# Altium integrated library SmartHalo.IntLib: 39 symbols
Pins are listed as number, name and electrical type; pins without a type are passive.

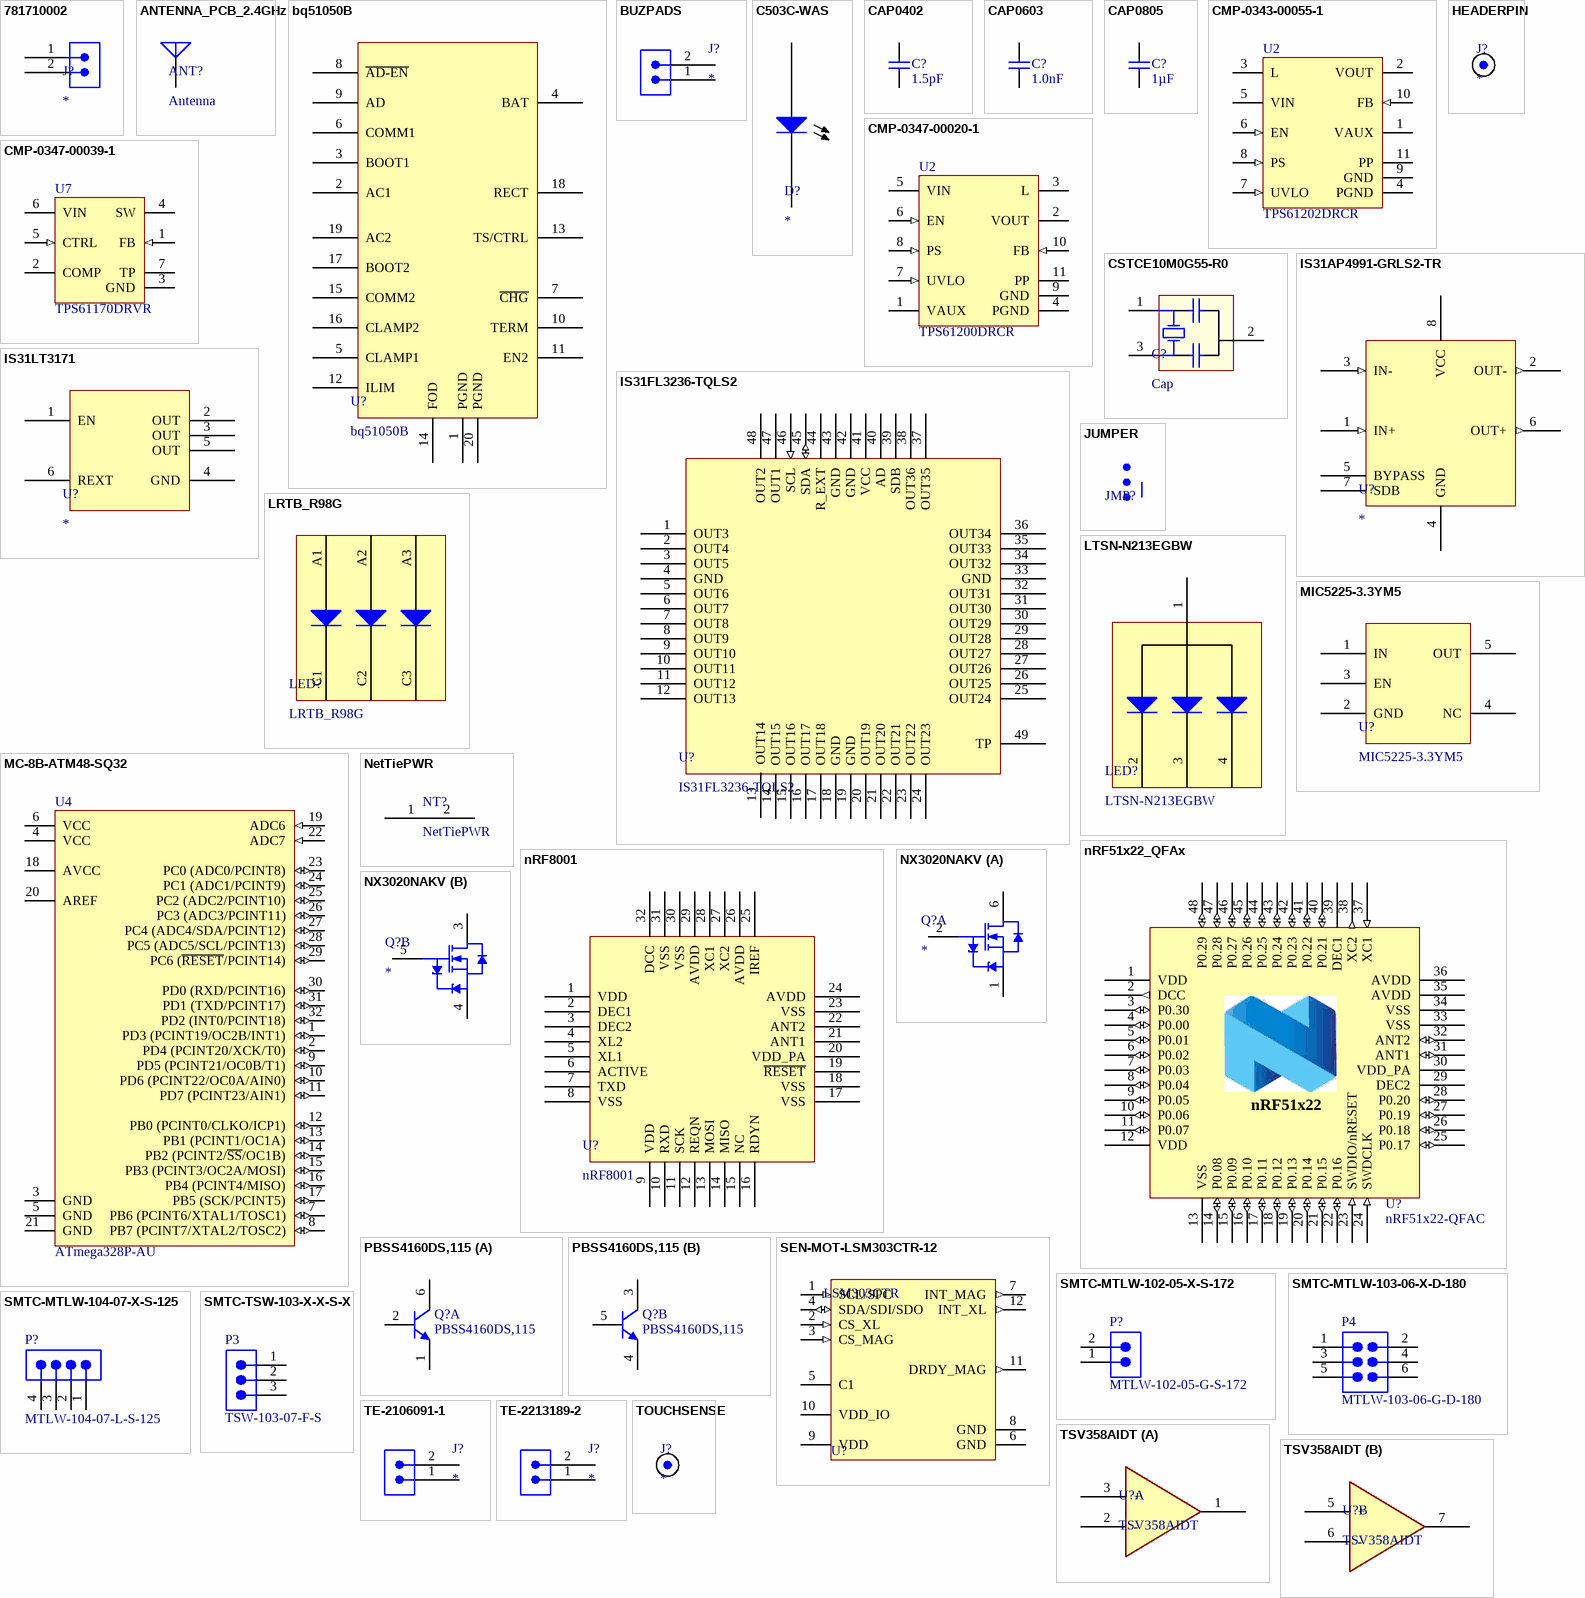
[diagram p0: symbols 781710002 to TSV358AIDT]

## 781710002
designator J?  (no BOM)
1.20MM WTB HEADER VERT 2POS
footprint 0781710002 (Molex header, 1 row, 2 pos, pitch 1.2mm)
pins: 1, 2

## ANTENNA_PCB_2.4GHz
designator ANT?, comment Antenna  (no BOM)
Antenna PCB, 2.4GHz, 26.11 mm x 1.27 mm, FR4 60 mils, Er = 4.2
footprint ANTENNA_PCB_2.4GHZ (ANT_PCB_2.4GHZ_NRF51422_1.6MM_1OZ)
pins: 1 0

## bq51050B
designator U?
IC WIRELESS PWR RCVR 20QFN
footprint RHL20-3050X2050TP (QFN, 20-Leads, Body 4.5x3.5mm, Pitch 0.5mm, Thermal Pad 3.05x2.05mm, TI Recommended)
pins: 1 PGND, 2 AC1, 3 BOOT1, 4 BAT, 5 CLAMP1, 6 COMM1, 7 ~{CHG}, 8 ~{AD-EN}, 9 AD, 10 TERM, 11 EN2, 12 ILIM, 13 TS/CTRL, 14 FOD, 15 COMM2, 16 CLAMP2, 17 BOOT2, 18 RECT, 19 AC2, 20 PGND, 21 TP (power) hidden to GND "Thermal pad"

## BUZPADS
designator J?
Buzzer Pogo Pins, Sizes and Pitch TBD
footprint BUZZERPADS (Buzzer Pogo Pin Pads, 2 x 0.5mm, Pitch 1mm)
pins: 1, 2

## C503C-WAS
designator D?
Cree 5mm Round LED C503C-WAS
footprint FRONTLED_PADS (Front Led pads); pin to pad A>1 C>2
pins: A Anode, C Cathode

## CAP0402
designator C?, comment 1.5pF
Chip Cap 0402 NP0 5%; Part Number: C0402-1.2p; Note: Chip Cap NP0 5%; Artikkelnr Noca: 20029157; Manufacturer: *; Manufacturer Part Number: *; Datasheet: *; Footprint: 0402s; LatestRevisionDate: 2009-05-08; Pin Count: 2; Publisher: Nordic Semiconductor; Published: 2009-05-08; Value: 1.5pF; Supplier: *; Supplier part number: *; 2nd source Supplier: *; 2nd source part number: *
footprint 0402s
pins: 1, 2

## CAP0603
designator C?, comment 1.0nF
Chip Cap 0603 X7R 10%; Part Number: C0402-1n0; Note: Chip Cap X7R 10%; Artikkelnr Noca: 20039223; Published: 2009-05-08; LatestRevisionDate: 2009-11-23; Publisher: Nordic Semiconductor; Value: 1.0nF; Manufacturer: *; Manufacturer Part Number: *; Datasheet: *; Footprint: 0603; Pin Count: 2; Supplier: *
footprint CAPC0603(1608)100_N (Chip Capacitor, Body 1.6x0.8mm, Height 1.0mm, IPC Medium Density)
pins: 1, 2

## CAP0805
designator C?, comment 1µF
X7R, 10V; Part Number: C0603-1µ0; Manufacturer: TAIYO YUDEN; Manufacturer Part Number: LMK107B7105KA-T; Note: Chip Cap 10% X7R; Published: 2009-05-08; LatestRevisionDate: 2009-11-23; Publisher: Nordic Semiconductor; Value: 1µF; Datasheet: http://www.yuden.co.jp/us/product/capacitor/LMK107B7105KA-T.html; Footprint: 0603s; Pin Count: 2; Supplier: Farnell; Artikkelnr Noca: *; Supplier Part Number: 1683674
footprint CAPC0805(2012)100_N (Chip Capacitor, Body 2.0x1.2mm, Height 1.0mm, IPC Medium Density)
pins: 1, 2

## CMP-0343-00055-1
designator U2, comment TPS61202DRCR
Boost Voltage Converter with 0.3 to 5.5 V Input and 5 V Output, -40 to 85 degC, 10-Pin SON (DRC), Green (RoHS & no Sb/Br); Manufacturer: Texas Instruments; Vout(Min)(V): 5; Vin(Min)(V): 0.3; Synchronous Rectification: TRUE; SubFamily: Step-Up Regulator; Vin(Max)(V): 5.5; Regulated Outputs(#): 1; Switching Frequency(Max)(kHz): 1250; DatasheetVersion: SLVS577B; Eco-Plan: Green (RoHS & no Sb/Br); PackageVersion: revL, Sep-2011; ComponentLink1Description: Datasheet; ComponentLink1URL: http://www.ti.com/general/docs/lit/getliterature.tsp?genericPartNumber=TPS61202&fileType=pdf; PartNumber: TPS61202DRCR; Vout(Max)(V): 5; Topology: Boost; ComponentLink2Description: Package Specification; Mounting Technology: Surface Mount; PackageDescription: 10-Pin Plastic Small Outline No-Lead, 3 x 3 x 1 mm Body, 0.5 mm Pitch, Exposed Pad; PackageReference: DRC10-2400X1650TP; Preset Vout(V): 5; ComponentLink2URL: http://www.ti.com/litv/pdf/mpds117k
footprint DRC10-2400X1650TP (SON, 10-Leads, Body 3x3mm, Pitch 0.5mm, Thermal Pad 2.4x1.65mm, TI Recommended)
pins: 1 VAUX (power) "Supply voltage for control stage", 2 VOUT (power) "Boost converter output", 3 L (power) "Connection for Inductor", 4 PGND (power) "Power ground", 5 VIN (power) "Boost converter input voltage", 6 EN (in) "Enable input (1: enabled, 0: disabled).", 7 UVLO (in) "Undervoltage lockout comparator input, must be connected to VAUX if not used", 8 PS (in) "Enable/disable Power Save mode (1 : disabled, 0: enabled)", 9 GND (power) "Control / logic ground", 10 FB (in) "Voltage feedback of adjustable versions, must be connected to VOUT at fixed output voltage versions", 11 PP (power) "Must be soldered to achieve appropriate power dissipation. Should be connected to PGND."

## CMP-0347-00020-1
designator U2, comment TPS61200DRCR
Boost Voltage Converter with 0.3 to 5.5 V Input and 1.8 to 5.5 V Output, -40 to 85 degC, 10-Pin SON (DRC), Green (RoHS & no Sb/Br); Manufacturer: Texas Instruments; Vout(Min)(V): 1.8; Vin(Max)(V): 5.5; Synchronous Rectification: TRUE; Regulated Outputs(#): 1; Vin(Min)(V): 0.3; Switching Frequency(Max)(kHz): 1250; SubFamily: Step-Up Regulator; ComponentLink2Description: Package Specification; Mounting Technology: Surface Mount; PartNumber: TPS61200DRCR; ComponentLink2URL: http://www.ti.com/litv/pdf/mpds117k; PackageVersion: revL, Sep-2011; Eco-Plan: Green (RoHS & no Sb/Br); Vout(Max)(V): 5.5; PackageDescription: 10-Pin Plastic Small Outline No-Lead, 3 x 3 x 1 mm Body, 0.5 mm Pitch, Exposed Pad; PackageReference: DRC10-2400X1650TP; DatasheetVersion: SLVS577B; ComponentLink1URL: http://www.ti.com/general/docs/lit/getliterature.tsp?genericPartNumber=TPS61200&fileType=pdf; ComponentLink1Description: Datasheet; Topology: Boost
footprint DRC10-2400X1650TP (SON, 10-Leads, Body 3x3mm, Pitch 0.5mm, Thermal Pad 2.4x1.65mm, TI Recommended)
pins: 1 VAUX (power) "Supply voltage for control stage", 2 VOUT (power) "Boost converter output", 3 L (power) "Connection for Inductor", 4 PGND (power) "Power ground", 5 VIN (power) "Boost converter input voltage", 6 EN (in) "Enable input (1: enabled, 0: disabled).", 7 UVLO (in) "Undervoltage lockout comparator input, must be connected to VAUX if not used", 8 PS (in) "Enable/disable Power Save mode (1 : disabled, 0: enabled)", 9 GND (power) "Control / logic ground", 10 FB (in) "Voltage feedback of adjustable versions, must be connected to VOUT at fixed output voltage versions", 11 PP (power) "Must be soldered to achieve appropriate power dissipation. Should be connected to PGND."

## CMP-0347-00039-1
designator U7, comment TPS61170DRVR
Boost Voltage Converter with 3 to 18 V Input and 3 to 38 V Output, -40 to 85 degC, 6-Pin SON (DRC), Green (RoHS & no Sb/Br); Manufacturer: Texas Instruments; Regulated Outputs(#): 1; Vout(Min)(V): 3; SubFamily: Step-Up Regulator; Dynamic Voltage Scaling: TRUE; Vin(Max)(V): 18; Switching Frequency(Max)(kHz): 1200; Vout(Max)(V): 38; Eco-Plan: Green (RoHS & no Sb/Br); Topology: Boost; ComponentLink1Description: Datasheet; DatasheetVersion: SLVS789C; ComponentLink2URL: http://www.ti.com/litv/pdf/mpds216d; PackageReference: DRV6-1600X1000TP; PartNumber: TPS61170DRVR; ComponentLink1URL: http://www.ti.com/general/docs/lit/getliterature.tsp?genericPartNumber=TPS61170&fileType=pdf; PackageVersion: revE, Oct-2010; Mounting Technology: Surface Mount; Vin(Min)(V): 3; ComponentLink2Description: Package Specification; PackageDescription: 6-Pin Plastic Small Outline No-Lead, 2 x 2 x 0.8 mm Body, 0.65 mm Pitch, Exposed Pad
footprint DRV6-1600X1000TP (SON, 6-Leads, Body 2x2mm, Pitch 0.65mm, Thermal Pad 1.6x1mm, TI Recommended)
pins: 1 FB (in) "Feedback pin for current. Connect to the center tap of a resistor divider to program the output voltage.", 2 COMP "Output of the transconductance error amplifier. Connect an external RC network to this pin to compensate the regulator.", 3 GND (power) "Ground", 4 SW (power) "This is the switching node of the IC. Connect SW to the switched side of the inductor", 5 CTRL (in) "Control pin of the boost regulator. CTRL is a multi-functional pin which can be used to enable the device and control the feedback voltage with a PWM signal or for digital communications.", 6 VIN (power) "The input supply pin for the IC. Connect VIN to a supply voltage between 3 V and 18 V.", 7 TP (power) "The thermal pad should be soldered to the analog ground plane to avoid thermal issue. If possible, use thermal vias to connect to ground plane for ideal power dissipation."

## CSTCE10M0G55-R0
designator C?, comment Cap
CER RESONATOR 10.0MHZ SMD
footprint CSTCE10M0G55-R0 (SMD, 3-Leads, Body 3.2x1.3mm, Pitch 1.2mm)
pins: 1 C1, 2 GND (power), 3 C2

## HEADERPIN
designator J?  (no BOM)
HEADER 0.025" PIN
footprint HEADERPIN (HEADER PIN 40 mils hole)
pins: 1

## IS31AP4991-GRLS2-TR
designator U?
IC AUDIO AMP MONO 1.2W 8SOP
footprint SOP8
pins: 1 IN+ (in), 2 OUT- (out), 3 IN- (in), 4 GND (power), 5 BYPASS, 6 OUT+ (out), 7 SDB, 8 VCC (power)

## IS31FL3236-TQLS2
designator U?
IC 36 CHANNELS LED DRIVER; Manufacturer: ISSI
footprint TQFP48 (TQFP48, 7 x 7 x 1.2 mm, 0.5 mm pitch)
pins: 1 OUT3, 2 OUT4, 3 OUT5, 4 GND (power), 5 OUT6, 6 OUT7, 7 OUT8, 8 OUT9, 9 OUT10, 10 OUT11, 11 OUT12, 12 OUT13, 13 OUT14, 14 OUT15, 15 OUT16, 16 OUT17, 17 OUT18, 18 GND (power), 19 GND (power), 20 OUT19, 21 OUT20, 22 OUT21, 23 OUT22, 24 OUT23, 25 OUT24, 26 OUT25, 27 OUT26, 28 OUT27, 29 OUT28, 30 OUT29, 31 OUT30, 32 OUT31, 33 GND (power), 34 OUT32, 35 OUT33, 36 OUT34, 37 OUT35, 38 OUT36, 39 SDB, 40 AD, 41 VCC (power), 42 GND (power), 43 GND (power), 44 R_EXT, 45 SDA (io), 46 SCL (in), 47 OUT1, 48 OUT2, 49 TP (power) "Thermal Pad"

## IS31LT3171
designator U?
10-TO-150MA CONSTANT-CURRENT LED DRIVER
footprint SOT23-6 (SOT23-6 pins, 2.92 x 1.6 mm body, 0.7mm x 1mm pads, 0.95 x 2.4 mm pitch)
pins: 1 EN, 2 OUT, 3 OUT, 4 GND, 5 OUT, 6 REXT

## JUMPER
designator JMP?  (value not drawn)  (no BOM)
JUMPER
footprint JUMPER_SMT (JUMPER SMT)
pins: 1, 2, 3

## LRTB_R98G
designator LED?
IC RGB LED OSRAM; Manufacturer: OSRAM
footprint LRTB_R98G (OSRAM LRTB R98G IC LED, 1.7 x 1.7 x 1 mm, SMT6)
pins: A1 Anode_Blue, A2 Anode_Green, A3 Anode_Red, C1 Cathode_Blue, C2 Cathode_Green, C3 Cathode_Red

## LTSN-N213EGBW
designator LED?
LED SMD LTSN-N213EGBW; Manufacturer: LiteOn
footprint LTSN-N213EGBW (SMD LED LiteOn LTSN-N213EGBW, 2.1 x 2.1 mm, 1.2 x 1.8mm pitch)
pins: 1 Anode "Common Anode", 2 Cathode_Red "Cathode Red", 3 Cathode_Green "Cathode Green", 4 Cathode_Blue "Cathode Blue"

## MC-8B-ATM48-SQ32
designator U4, comment ATmega328P-AU
8-bit AVR Microcontroller, 32KB Flash, 1KB EEPROM, 2KB SRAM, 32-pin TQFP, Industrial Grade (-40Â°C to 85Â°C); PackageDescription: 32-Lead, 7x7x1.0 mm Body, 0.8mm Lead Pitch, Thin Profile Plastic Quad Flat Package (TQFP); DatasheetVersion: revD, May-2011; RevisionNote: DatasheetVersion & PackageVersion updated. URLs added.; ComponentLink1URL: http://www.atmel.com/; ComponentLink2Description: ATmega48A/48PA/88A/88PA/168A/168PA/328/328P Datasheet; Code_JEDEC: MS-026-ABA; ComponentLink1Description: Manufacturer URL; PackageReference: 32A; ComponentLink3Description: ATmega48A/48PA/88A/88PA/168A/168PA/328/328P Summary; ComponentLink2URL: http://www.atmel.com/dyn/resources/prod_documents/doc8271.pdf; PackageVersion: revC, Oct-2010; ComponentLink3URL: http://www.atmel.com/dyn/resources/prod_documents/8271S.pdf
footprint 32A_M (Thin QFP, 32-Leads, Body 7x7mm, Pitch 0.8mm, IPC Low Density)
pins: 1 PD3 (PCINT19/OC2B/INT1) (io), 2 PD4 (PCINT20/XCK/T0) (io), 3 GND (power), 4 VCC (power), 5 GND (power), 6 VCC (power), 7 PB6 (PCINT6/XTAL1/TOSC1) (io), 8 PB7 (PCINT7/XTAL2/TOSC2) (io), 9 PD5 (PCINT21/OC0B/T1) (io), 10 PD6 (PCINT22/OC0A/AIN0) (io), 11 PD7 (PCINT23/AIN1) (io), 12 PB0 (PCINT0/CLKO/ICP1) (io), 13 PB1 (PCINT1/OC1A) (io), 14 PB2 (PCINT2/~{SS}/OC1B) (io), 15 PB3 (PCINT3/OC2A/MOSI) (io), 16 PB4 (PCINT4/MISO) (io), 17 PB5 (SCK/PCINT5) (io), 18 AVCC (power), 19 ADC6 (in), 20 AREF, 21 GND (power), 22 ADC7 (in), 23 PC0 (ADC0/PCINT8) (io), 24 PC1 (ADC1/PCINT9) (io), 25 PC2 (ADC2/PCINT10) (io), 26 PC3 (ADC3/PCINT11) (io), 27 PC4 (ADC4/SDA/PCINT12) (io), 28 PC5 (ADC5/SCL/PCINT13) (io), 29 PC6 (~{RESET}/PCINT14) (io), 30 PD0 (RXD/PCINT16) (io), 31 PD1 (TXD/PCINT17) (io), 32 PD2 (INT0/PCINT18) (io)

## MIC5225-3.3YM5
designator U?
IC REG LDO 3.3V 0.15A SOT23-5
footprint SOT23-5_N (SOT23, 5-Leads, Body 2.9x1.6mm, Pitch 0.95mm, Lead Span 2.8mm, IPC Medium Density)
pins: 1 IN, 2 GND, 3 EN, 4 NC, 5 OUT

## NetTiePWR
designator NT?  (net tie, no BOM)
footprint NetTiePWR (NetTie for Power Nets)
pins: 1 NET1, 2 NET2

## nRF51x22_QFAx
designator U?, comment nRF51x22-QFAC
Multi-protocol Bluetooth Low Energy, ANT and 2.4GHz proprietary system-on-chip; Manufacturer: Nordic Semiconductor; Note: nRF51422 - QFN48 6x6 0.4mm pitch; Artikkelnr Noca: N.A.; Part Number: nRF51x22-QFAC; Manufacturer Part Number: nRF51x22-QFAC; Datasheet: *; LatestRevisionDate: 2014-09-24; Pin Count: 48; Publisher: Nordic Semiconductor; Published: 2014-09-24; Value: nRF51x22-QFAC; Supplier: Nordic Semiconductor; Supplier part number: *; 2nd source Supplier: *; 2nd source part number: *; Footprint Doc: QFN-48; Artikkelnr Simpro: N.A.
footprint QFN40P600X600X90-48N
pins: 1 VDD (power), 2 DCC (out), 3 P0.30 (io), 4 P0.00 (io), 5 P0.01 (io), 6 P0.02 (io), 7 P0.03 (io), 8 P0.04 (io), 9 P0.05 (io), 10 P0.06 (io), 11 P0.07 (io), 12 VDD (power), 13 VSS (power), 14 P0.08 (io), 15 P0.09 (io), 16 P0.10 (io), 17 P0.11 (io), 18 P0.12 (io), 19 P0.13 (io), 20 P0.14 (io), 21 P0.15 (io), 22 P0.16 (io), 23 SWDIO/nRESET (in), 24 SWDCLK (in), 25 P0.17 (io), 26 P0.18 (io), 27 P0.19 (io), 28 P0.20 (io), 29 DEC2 (power), 30 VDD_PA (power), 31 ANT1 (io), 32 ANT2 (io), 33 VSS (power), 34 VSS (power), 35 AVDD (power), 36 AVDD (power), 37 XC1 (in), 38 XC2 (out), 39 DEC1 (power), 40 P0.21 (io), 41 P0.22 (io), 42 P0.23 (io), 43 P0.24 (io), 44 P0.25 (io), 45 P0.26 (io), 46 P0.27 (io), 47 P0.28 (io), 48 P0.29 (io), 49 (power) hidden to GND
text: nRF51x22

## nRF8001
designator U?
IC BLUETOOTH TRANSCEIVER 32QFN
footprint Model Name (Footprint not found)
footprint Nordic_QFN50P500X500X90-33N (QFN, 32-Leads, Body 5.0x5.0mm, Pitch 0.5mm, Thermal Pad 3.6x3.6mm)
pins: 1 VDD, 2 DEC1, 3 DEC2, 4 XL2, 5 XL1, 6 ACTIVE, 7 TXD, 8 VSS, 9 VDD, 10 RXD, 11 SCK, 12 REQN, 13 MOSI, 14 MISO, 15 NC, 16 RDYN, 17 VSS, 18 VSS, 19 ~{RESET}, 20 VDD_PA, 21 ANT1, 22 ANT2, 23 VSS, 24 AVDD, 25 IREF, 26 AVDD, 27 XC2, 28 XC1, 29 AVDD, 30 VSS, 31 VSS, 32 DCC, 33 GND (power) hidden to GND "Thermal relief"

## NX3020NAKV
designator Q?
30 V, 200 mA dual N-channel Trench MOSFET; Manufacturer: NXP Semiconductors
footprint SOT666 (SOT666, 1.3 x 1.7 x 0.6 mm body, 0.375 x 0.5 mm pads, 1.6 x 0.538 mm pitch)
part A pins: 1 S1 "source", 2 G1 "gate", 6 D1 "drain"
part B pins: 3 D2 "drain", 4 S2 "source", 5 G2 "gate"

## PBSS4160DS,115
designator Q?
TRANS 2NPN 60V 1A 6TSOP; Manufacturer: NXP Semiconductors; Polarity: NPN; Mounting Technology: Surface Mount; PackageDescription: 6-Pin Semiconductor Package, 2.9 x 1.6 mm Body, 0.95 mm Pitch; PackageReference: SC74; PartNumber: PBSS4160DS; Manufacturer Part Number: PBSS4160DS,115; Digi-Key Part Number: 568-4350-1-ND
footprint NXP-SC74_M (SOT23, 6-Leads, Body 2.9x1.6mm, Pitch 0.95mm, IPC Low Density)
part A pins: 1 E1, 2 B1, 6 C1
part B pins: 3 C2, 4 E2, 5 B2

## SEN-MOT-LSM303CTR-12
designator U?, comment LSM303CTR
3D ACCELEROMETER/MAGNETOMETER
footprint LGA12-2X2X1_N (PQFN, 12-Leads, Body 2x2mm, Pitch 0.5mm, IPC Medium Density)
pins: 1 SCL/SPC (in), 2 CS_XL (in), 3 CS_MAG (in), 4 SDA/SDI/SDO (io), 5 C1, 6 GND (power), 7 INT_MAG (out), 8 GND (power), 9 VDD (power), 10 VDD_IO (power), 11 DRDY_MAG (out), 12 INT_XL (out)

## SMTC-MTLW-102-05-X-S-172
designator P?, comment MTLW-102-05-G-S-172  (no BOM)
Low Profile .025" SQ Post Header, Through-hole, Vertical, -55 to 125 degC, 2.54 mm Pitch, 2-Pin, Male, RoHS; Manufacturer: Samtec; Pitch: 2.54 mm; ComponentLink2URL: http://www.samtec.com/documents/webfiles/pdf/MTLW_TH.PDF; PackageDescription: Low Profile Terminal Assembly; ComponentLink3URL: http://www.samtec.com/documents/webfiles/cpdf/MTLW-1XX-XX-XX-X-XXX-XX-XX-MKT1.pdf; PackageReference: MTLW-102-05-X-S-172; Mounting Technology: Through-hole; ComponentLink2Description: Datasheet; PackageVersion: T, 6/1991; Orientation: Vertical; DatasheetVersion: F-214; RoHS: True; ComponentLink3Description: Package Specification; ComponentLink1URL: http://www.samtec.com; Temperature Range: -55 to 125 degC; PartNumber: MTLW-102-05-G-S-172; ComponentLink1Description: Manufacturer URL
footprint SMTC-MTLW-102-05-X-S-172 (Terminal Assembly, 1x2 Pins, Vertical, 2.54mm Pitch, Male)
pins: 1, 2

## SMTC-MTLW-103-06-X-D-180
designator P4, comment MTLW-103-06-G-D-180  (no BOM)
Low Profile .025" SQ Post Header, Through-hole, Vertical, -55 to 125 degC, 2.54 mm Pitch, 6-Pin, Male, RoHS; Manufacturer: Samtec; Pitch: 2.54 mm; PartNumber: MTLW-103-06-G-D-180; ComponentLink2Description: Datasheet; ComponentLink3URL: http://www.samtec.com/documents/webfiles/cpdf/MTLW-1XX-XX-XX-X-XXX-XX-XX-MKT1.pdf; ComponentLink1URL: http://www.samtec.com; Orientation: Vertical; PackageVersion: T, 6/1991; PackageDescription: Low Profile Terminal Assembly; ComponentLink3Description: Package Specification; ComponentLink1Description: Manufacturer URL; DatasheetVersion: F-214; Temperature Range: -55 to 125 degC; ComponentLink2URL: http://www.samtec.com/documents/webfiles/pdf/MTLW_TH.PDF; RoHS: True; Mounting Technology: Through-hole; PackageReference: MTLW-103-06-X-D-180
footprint SMTC-MTLW-103-06-X-D-180 (Terminal Assembly, 2x3 Pins, Vertical, 2.54mm Pitch, Male)
pins: 1, 2, 3, 4, 5, 6

## SMTC-MTLW-104-07-X-S-125
designator P?, comment MTLW-104-07-L-S-125  (no BOM)
Low Profile .025" SQ Post Header, Through-hole, Vertical, -55 to 125 degC, 2.54 mm Pitch, 4-Pin, Male, RoHS; Manufacturer: Samtec; Pitch: 2.54 mm; PackageDescription: Low Profile Terminal Assembly; PartNumber: MTLW-104-07-L-S-125; PackageReference: MTLW-104-07-X-S-125; ComponentLink1Description: Manufacturer URL; ComponentLink2Description: Datasheet; ComponentLink2URL: http://www.samtec.com/documents/webfiles/pdf/MTLW_TH.PDF; ComponentLink3Description: Package Specification; Mounting Technology: Through-hole; ComponentLink3URL: http://www.samtec.com/documents/webfiles/cpdf/MTLW-1XX-XX-XX-X-XXX-XX-XX-MKT1.pdf; ComponentLink1URL: http://www.samtec.com; Orientation: Vertical; PackageVersion: T, 6/1991; DatasheetVersion: F-214; Temperature Range: -55 to 125 degC; RoHS: True
footprint SMTC-MTLW-104-07-X-S-125 (Terminal Assembly, 1x4 Pins, Vertical, 2.54mm Pitch, Male)
pins: 1, 2, 3, 4

## SMTC-TSW-103-X-X-S-X
designator P3, comment TSW-103-07-F-S  (no BOM)
0.025" SQ Post Header, Through-hole, Vertical, -55 to 125 degC, 2.54 mm Pitch, 3-Pin, Male, RoHS; Manufacturer: Samtec; Pitch: 2.54 mm; DatasheetVersion: F-214; ComponentLink1Description: Manufacturer URL; ComponentLink3URL: http://www.samtec.com/documents/webfiles/cpdf/TSW-XXX-XX-XXX-X-XX-XXX-MKT.pdf; Mounting Technology: Through-hole; PackageDescription: .025[0.64] SQ. Post Terminal Strip Assembly; Temperature Range: -55 to 125 degC; ComponentLink3Description: Package Specification; Orientation: Vertical; PartNumber: TSW-103-07-F-S; RoHS: True; PackageVersion: DM, 8/1988; ComponentLink2Description: Datasheet; ComponentLink1URL: http://www.samtec.com; ComponentLink2URL: http://www.samtec.com/documents/webfiles/pdf/TSW_TH.PDF; PackageReference: TSW-103-07-X-S
footprint SMTC-TSW-103-07-X-S (.025 SQ Post Terminal Strip Assembly, 1x3 Pins, Vertical, 2.54mm Pitch, Male)
pins: 1, 2, 3

## TE-2106091-1
designator J?
2 pos Inverted Thru Board SMT Header; Manufacturer: TE; Manufacturer Part Number: 2106091
footprint TE-2106091-1 (2 pos Inverted Thru Board SMT Header)
pins: 1, 2

## TE-2213189-2
designator J?
Assembly, IPI Connector 26-24GA w/o cap; Manufacturer: TE; Manufacturer Part Number: 2213189-2
footprint TE-2213189-2 (Assembly, IPI Connector 26-24GA w/o cap)
pins: 1, 2

## TOUCHSENSE
designator J?  (no BOM)
Touch Sensor pad connection
footprint TOUCHSENSE (Touch sensor pad, 0.5mm)
pins: 1

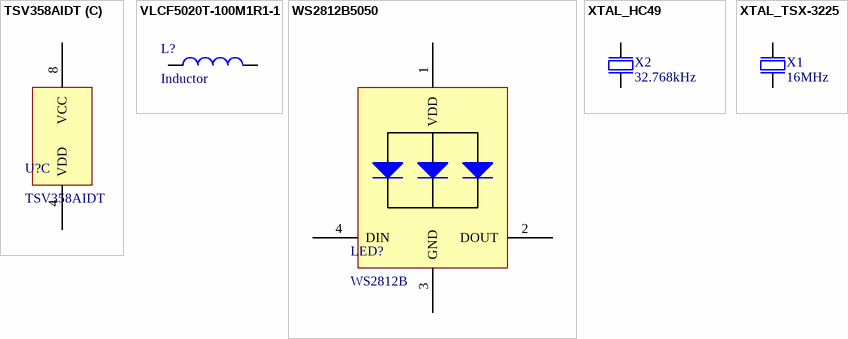
[diagram p1: symbols TSV358AIDT to XTAL_TSX-3225]

## TSV358AIDT
designator U?
IC OPAMP GP 1.4MHZ RRO 8SO
footprint SOP8 - ST (SOP8, 3.9 x 4.9 x 1.75 mm body, 1.27mm x 4.95 mm pitch)
part A pins: 1 OUT1, 2 - "IN1-", 3 + "IN1+"
part B pins: 5 + "IN2+", 6 - "IN2-", 7 OUT2
part C pins: 4 VDD (power), 8 VCC (power)

## VLCF5020T-100M1R1-1
designator L?, comment Inductor
FIXED IND 10UH 1.13A 237 MOHM
footprint VLCF5020T-100M1R1-1 (IND SMT, 5 x 5 x 2 mm)
pins: 1, 2

## WS2812B5050
designator LED?, comment WS2812B
IC RGB LED 5V SERIAL
footprint WS2812B5050 (WS RGB LED 5V SERIAL)
pins: 1 VDD, 2 DOUT, 3 GND, 4 DIN

## XTAL_HC49
designator X2, comment 32.768kHz
EPSON TOYOCOM - FC-135 32.768KHZ ±20PPM,9.0PF - CRYSTAL, SM, WATCH; Part Number: XTAL_FC-135 32.768k; Note: XTAL SMD 32.768kHz, 3215; Artikkelnr Noca: 2.20191e+007; Manufacturer: Epson Toyocom; Manufacturer Part Number: FC-135 32.768KHZ ±20PPM,9.0PF; Datasheet: http://www.farnell.com/datasheets/57480.pdf; Footprint: FC-135; LatestRevisionDate: 2010-10-18; Pin Count: 2; Publisher: Nordic Semiconductor; Published: 2010-10-18; Value: 32.768kHz; Supplier: Farnell; Supplier part number: 127-8037; 2nd source Supplier: *; 2nd source part number: *
footprint CRYSTAL_32.768kHz_SMT2 (CRYSTAL 32.768kHz, 4.9 x 1.8 x 0.80 mm, 4.2 mm Pitch)
pins: 1 inp, 2 out

## XTAL_TSX-3225
designator X1, comment 16MHz
XTAL SMD 16MHz, 9pF, Mercury; Part Number: XTAL SMD 16MHz (3225); Note: XTAL SMD 16MHz 3225; Artikkelnr Noca: 22019087; Value: 16MHz; Manufacturer: *; Manufacturer Part Number: *; Datasheet: http://ndap3-net.ebz.epson.co.jp/w/www/PDFS/epdoc_qd.nsf/85a4e2c523a1f89349257068002f9e30/31e98956c8f991cd4925707c003b38b1/$FILE/FA-238_238V_TSX-3225_E08X.pdf; Footprint: BT-XTAL_3225; LatestRevisionDate: 2010-02-24; Pin Count: 4; Publisher: Nordic Semiconductor; Published: 2009-05-30; Supplier: *; Supplier part number: *; 2nd source Supplier: *; 2nd source part number: *
footprint CRYSTAL_16MHz_SMT4 (CRYSTAL 2.5 x 2.0 mm, 4 Pads, 1.5 mm Horizontal Pitch, 1.25 mm Vertical Pitch)
pins: 1 inp, 2 GND hidden to GND, 3 out, 4 GND hidden to GND